# Altium schematic symbol library RJ45_Breakout.SCHLIB: 15 symbols
Pins are listed as number, name and electrical type; pins without a type are passive.

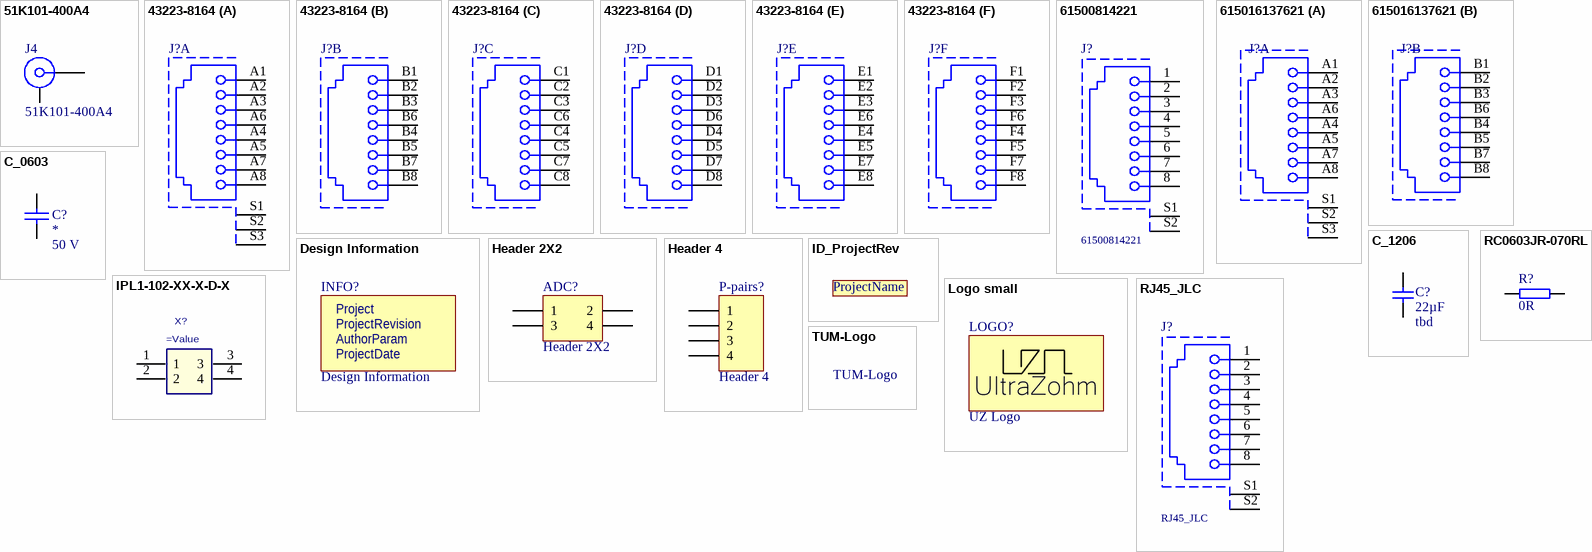
[diagram p0: symbols 51K101-400A4 to TUM-Logo]

## 51K101-400A4
designator J4
BNC 50R Straight Jack, Up to 10 GHz, -55 to 155 degC; Design Note: Footprint in library is a generic example - only application specific footprint delivers High Performance; DatasheetVersion: c00; PackageVersion: c00; PackageReference: 51K101-400A4; PackageDescription: 50R BNC Straight Jack, 12 x 12 x 15 mm; Mounting Technology: Through Hole; PartNumber: 51K101-400A4; ComponentLink1Description: Manufacturer URL; ComponentLink1URL: http://www.rosenberger.de; ComponentLink2Description: Datasheet; ComponentLink2URL: http://rosenberger.de/ok/images/documents/db/51K101-400A4.pdf; ComponentLink3Description: Package Specification; ComponentLink3URL: http://rosenberger.de/ok/images/documents/db/51K101-400A4.pdf; ComponentLink4Description: URL Link1; ComponentLink4URL: Series Overview / Design Note:http://rosenberger.de/ok/images/documents/spez/51.pdf; ComponentLink5Description: Webshop / RFQ; ComponentLink5URL: http://www.rosenberger.com/en/contact/sales/
footprint TE_BNC_Jack
pins: 1, MH

## 43223-8164
designator J?
Modular Connectors / Ethernet Connectors ModJack RA Gangd SHLD FLH 6PRT 8/8; MPN: 43223-8164; MF: Molex; Created: 20190906_Kreppel; Supplier 1: Mouser; Supplier Part Number 1: 538-43223-8164
footprint 43223-8164 (Modular Jack Horizontal Shielded Ganged 6 Ports 8P8C Tab Down)
part A pins: A1, A2, A3, A4, A5, A6, A7, A8, S1, S2, S3
part B pins: B1, B2, B3, B4, B5, B6, B7, B8
part C pins: C1, C2, C3, C4, C5, C6, C7, C8
part D pins: D1, D2, D3, D4, D5, D6, D7, D8
part E pins: E1, E2, E3, E4, E5, E6, E7, E8
part F pins: F1, F2, F3, F4, F5, F6, F7, F8

## 61500814221
designator J?
Modular Jack WR-MJ, Tab Down, Shielded, Horizontal Entry, THT, 8P8C; Port: 1x1; Compliance: Lead free / RoHS; Rated Current: 1.5 A; Working Voltage: 120 VAC; Withstanding Voltage: 1000 VAC; Contact Resistance: 20 mOhm; ComponentLink1Description: Manufacturer; ComponentLink1URL: http://www.we-online.de; ComponentLink2Description: Datasheet; ComponentLink2URL: https://katalog.we-online.de/em/datasheet/61500814221.pdf; Part Number: 61500814221; Published Date: July 2018; Publisher: Wurth Elektronik; Pin Number: 8P8C; Operating Temperature: -40 to 85 degC; Mounting Technology: THT; Packaging: Tray; Entrance: Horizontal; LCSC Part #: C386758
footprint 61500814221
pins: 1, 2, 3, 4, 5, 6, 7, 8, S1, S2

## 615016137621
designator J?
Modular Jack WR-MJ, Tab Down, Shielded, Dual Port, Horizontal Entry, THT, 8P8C; MPN: 615016137621; MF: Wurth Elektronik; Port: 1x2; Compliance: Lead free / RoHS; Rated Current: 1.5 A; Working Voltage: 120 VAC; Withstanding Voltage: 1000 VAC; Contact Resistance: 20 mOhm; ComponentLink1Description: Manufacturer; ComponentLink1URL: http://www.we-online.de; ComponentLink2Description: Datasheet; ComponentLink2URL: https://katalog.we-online.de/em/datasheet/615016137621.pdf; Published Date: July 2018; Pin Number: 8P8C; Operating Temperature: -40 to 85 degC; Mounting Technology: THT; Packaging: Tray; Entrance: Horizontal; Supplier 1: Farnell; Supplier 2: Mouser; Supplier 3: Digi-Key; Supplier Part Number 1: 1841174; Supplier Part Number 2: 710-615016137621; Supplier Part Number 3: 732-2744-ND
footprint 615016137621 (Modular Jack Horizontal Shielded Dual Port 8P8C Tab Down)
part A pins: A1, A2, A3, A4, A5, A6, A7, A8, S1, S2, S3
part B pins: B1, B2, B3, B4, B5, B6, B7, B8

## C_0603
designator C?  Rated Voltage: 50 V  (hidden comment: *)
CAP 0603 (1608 Metric) SMD; Tolerance: ±5%; Case-Metric: 1608; Case-EIA: 0603; Max Thickness: 1 mm; Technology: SMT; Created: 2018_09_06_AGeiger; Dielectric: *; Supplier 1: *; Supplier Part Number 1: *; MF: *; MPN: *; Value: *
footprint C_0603(1608)100_L (Chip Capacitor, Body 1.6x0.8mm, Height 1.0mm, IPC High Density)
pins: 1, 2
1 alternate drawing of the same symbol

## C_1206
designator C?, comment 22µF  Voltage: tbd
Capacitor 1206; Tolerance: 10%; Package: 1206; Value: 22µF; Created: 2018_06_25_AGeiger; Supplier 1: tbd; Supplier Part Number 1: tbd; MF: tbd; MPN: tbd; Dielectric: tbd
footprint C_1206
pins: 1, 2

## Design Information
designator INFO?  (no BOM)
Manufacturer: UltraZohm; Created from: MGremer; Manufacturer Part Number: Design Information; PartID: 12; Created On: 03.11.2021 09:04:23; ComponentLink1Description: https://docs.ultrazohm.com/; ComponentLink1URL: homepage; Component Type: Design Information; Last Updated: 03.11.2021 09:28:34; Supplier 1: -; Supplier Part Number 1: -; Type: Design Information; Value: Design Information; Live Cycle Status: 1
footprint Design_info
text: Project; ProjectRevision; AuthorParam; ProjectDate

## Header 2X2
designator ADC?
Header, 2-Pin, Dual row; LatestRevisionDate: 17-Jul-2002; LatestRevisionNote: Re-released for DXP Platform.; Publisher: Altium Limited; LCSC Part #: C160338
footprint HDR2X2 (Connector; Header; 2x2 Position)
signal-integrity model Connector
pins: 1, 2, 3, 4

## Header 4
designator P-pairs?
Header, 4-Pin; LatestRevisionDate: 17-Jul-2002; LatestRevisionNote: Re-released for DXP Platform.; Publisher: Altium Limited; LCSC Part #: C124378
footprint HDR1X4 (Connector; Header; 4 Position)
signal-integrity model Connector
pins: 1, 2, 3, 4

## ID_ProjectRev
designator ProjectName, comment Project Name, Rev  (value not drawn)  (no BOM)
Project Name and Revision Number; Created: 2018_11_23_AGeiger; Value: Project Name, Rev
footprint ID_ProjectRev (project name + revision number)

## IPL1-102-XX-X-D-X
designator X?
2.54mm Double Row Terminal Assembly, Right-Angled; Manufacturer: SAMTEC; Created: 2018_05_02_AGeiger; Value: =MPN; Supplier 1: Mouser; Supplier Part Number 1: 200-IPL110201LDK
footprint IPL1-102-01-L-D-K
pins: 1, 2, 3, 4

## Logo small
designator LOGO?, comment UZ Logo  (no BOM)
Manufacturer Part Number: Logo small; Manufacturer: UltraZohm; Created from: MGremer; Created: Jan2021_Liegmann; Value: Logo; PartID: 10; Created On: 03.11.2021 09:04:23; ComponentLink1Description: https://docs.ultrazohm.com/; ComponentLink1URL: homepage; Component Type: Logo; Last Updated: 03.11.2021 09:05:50; Supplier 1: -; Supplier Part Number 1: -; Type: Logo; Live Cycle Status: 1
footprint UZ_Logo_small

## RC0603JR-070RL
designator R?, comment 0R
SMD resistor E24 series; Manufacturer Part Number: RC0603JR-070RL; Manufacturer: YAGEO; Tolerance: 5%; Created from: MGremer; PartID: 1; Created On: 14.12.2020 16:17:14; ComponentLink1Description: Datasheet; ComponentLink1URL: https://www.mouser.de/datasheet/2/447/PYu-RC_Group_51_RoHS_L_10-1664068.pdf; Component Type: SMD resistor; Device Package: 0603; Last Updated: 04.03.2021 09:09:42; Mounting Type: SMD; Supplier 1: Mouser; Supplier Part Number 1: 603-RC0603JR-070RL; Supplier 2: LCSC; Supplier Part Number 2: C21189; Type: Resistor; Value: 0R; Live Cycle Status: 1; Stock number: Labor SMD Container; LCSC Part Number: C21189
footprint RES 0603_1608
footprint RES 0603_1608 NO TO
pins: 1, 2

## RJ45_JLC
designator J?
Modular Jack WR-MJ, Tab Down, Shielded, Horizontal Entry, THT, 8P8C; Part Number: 61500814221; Port: 1x1; Compliance: Lead free / RoHS; Rated Current: 1.5 A; Working Voltage: 120 VAC; Withstanding Voltage: 1000 VAC; Contact Resistance: 20 mOhm; ComponentLink1Description: Manufacturer; ComponentLink1URL: http://www.we-online.de; ComponentLink2Description: Datasheet; ComponentLink2URL: https://katalog.we-online.de/em/datasheet/61500814221.pdf; Published Date: July 2018; Publisher: Wurth Elektronik; Pin Number: 8P8C; Operating Temperature: -40 to 85 degC; Mounting Technology: THT; Packaging: Tray; Entrance: Horizontal; LCSC Part #: C386758
footprint RJ45_JLC
pins: 1, 2, 3, 4, 5, 6, 7, 8, S1, S2

## TUM-Logo
designator Logo?  (value not drawn)
footprint TUM-Logo